# Altium footprint library Controller.PcbLib: 12 footprints
Each footprint in its own frame and in the unit in brackets; x right, y up, seen from the top. Pads: shape width x height; smd on the part's side, far side on the other; paste and mask are expansions set on the pad; w line width, h text height; cw(c..) or ccw(c..) is an arc to the next point about the centre after c.
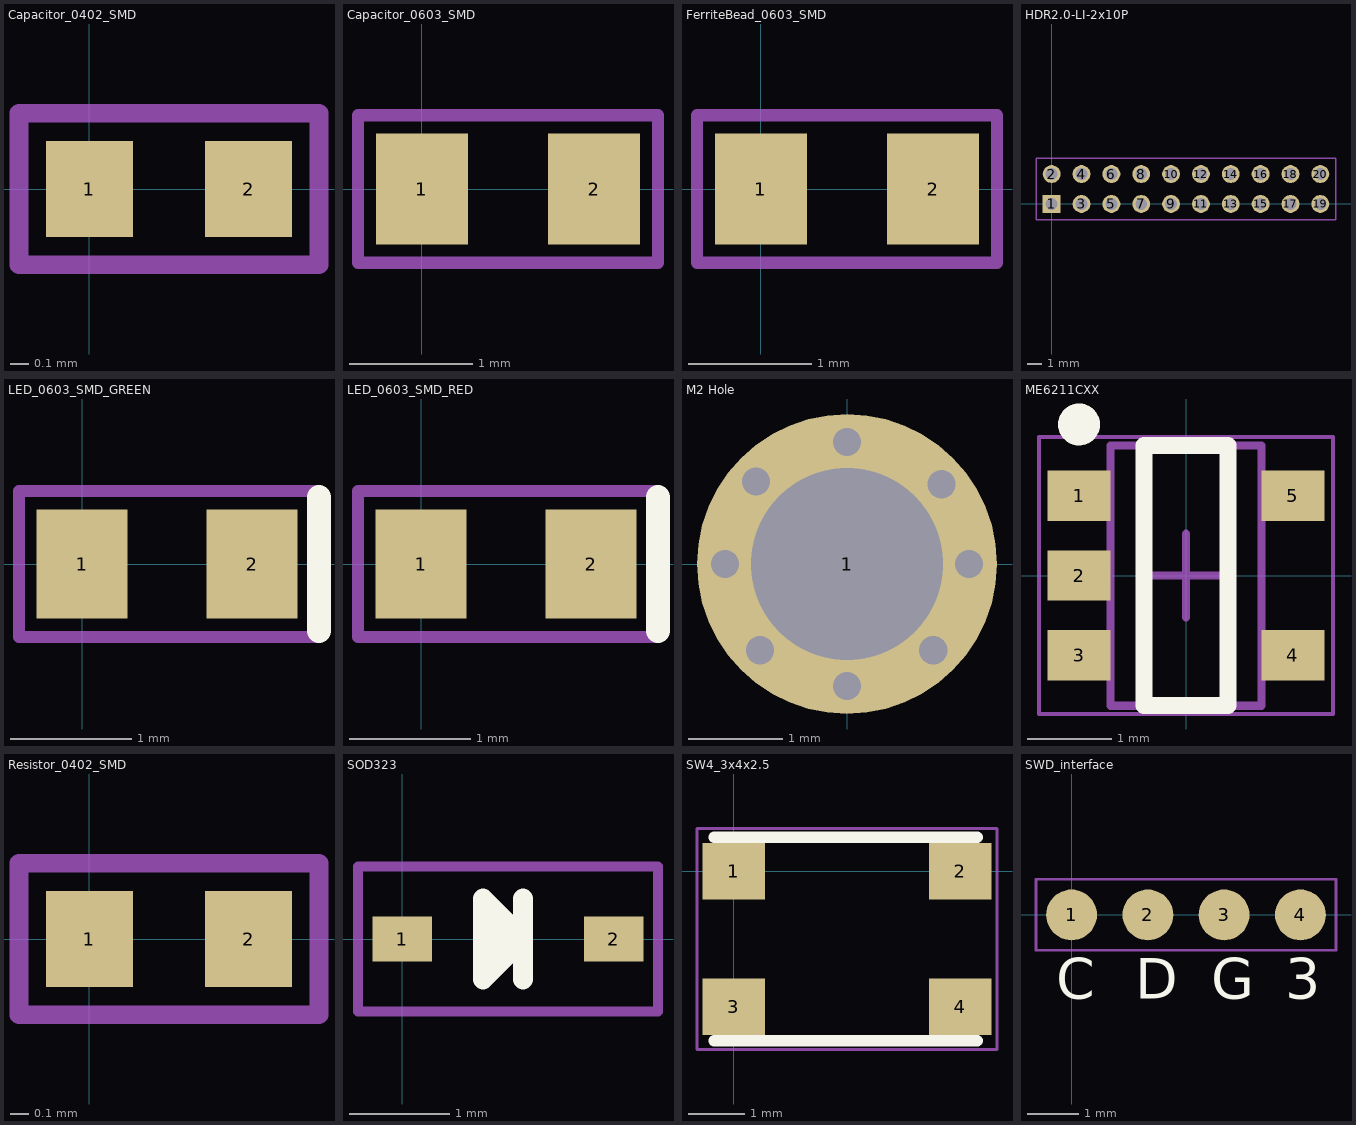
[diagram p0: the footprints below, top view; thin cyan lines are the x and y axes]

## Capacitor_0402_SMD [mm]
pads (2):
  rect 0.47x0.52 smd: 1(0,0) 2(0.86,0)
Mechanical 15:
  lines w0.1: -0.38,-0.41 1.24,-0.41 1.24,0.41 -0.38,0.41 -0.38,-0.41
3D body "capacitor_smd_0402.step": height 0.51, standoff -0.01, extent -0.165,-0.262 1.025,0.262

## Capacitor_0603_SMD [mm]
pads (2):
  rect 0.75x0.9 smd: 1(0,0) 2(1.4,0)
Mechanical 15:
  lines w0.1: -0.52,-0.6 1.92,-0.6 1.92,0.6 -0.52,0.6 -0.52,-0.6
3D body "capacitor_smd_0603.step": height 0.81, standoff -0.01, extent -0.23,-0.413 1.63,0.413

## FerriteBead_0603_SMD [mm]
pads (2):
  rect 0.75x0.9 smd: 1(0,0) 2(1.4,0)
Mechanical 15:
  lines w0.1: -0.52,-0.6 -0.52,0.6 1.92,0.6 1.92,-0.6 -0.52,-0.6
3D body "FerriteBead_0603.STEP": height 0.8, standoff 0, extent -0.1,-0.4 1.5,0.4

## HDR2.0-LI-2x10P [mm]
pads (20):
  rect 1.2x1.2 hole 0.8: 1(0,0)
  round 1.2 hole 0.8: 2(0,2) 3(2,0) 4(2,2) 5(4,0) 6(4,2) 7(6,0) 8(6,2) 9(8,0) 10(8,2) 11(10,0) 12(10,2) 13(12,0) 14(12,2) 15(14,0) 16(14,2) 17(16,0) 18(16,2) 19(18,0) 20(18,2)
Mechanical 15:
  lines w0.1: -1.05,-1.05 -1.05,3.05 19.05,3.05 19.05,-1.05 -1.05,-1.05
3D body "双排针 间距2.0mm 10x2.step": height 6, standoff -2.8, extent -1,-1 19,3

## LED_0603_SMD_GREEN [mm]
pads (2):
  rect 0.75x0.9 smd: 1(0,0) 2(1.4,0)
Top Overlay:
  lines w0.2: 1.95,-0.55 1.95,0.55
Mechanical 15:
  lines w0.1: -0.52,-0.6 1.92,-0.6 1.92,0.6 -0.52,0.6 -0.52,-0.6
3D body "LED_0603_GREEN.step": height 0.8, standoff 0, extent -0.1,-0.4 1.5,0.4

## LED_0603_SMD_RED [mm]
pads (2):
  rect 0.75x0.9 smd: 1(0,0) 2(1.4,0)
Top Overlay:
  lines w0.2: 1.95,-0.55 1.95,0.55
Mechanical 15:
  lines w0.1: -0.52,-0.6 -0.52,0.6 1.92,0.6 1.92,-0.6 -0.52,-0.6
3D body "LED_0603_RED.step": height 0.8, standoff 0, extent -0.1,-0.4 1.5,0.4

## M2 Hole [mm]
pads (1):
  round 3.2 hole 2.05: 1(0,0)
via -0.93,-0.92 diameter 0.3 hole 0.3
via 0.92,-0.92 diameter 0.3 hole 0.3
via -1.3,0 diameter 0.3 hole 0.3
via 0,1.3 diameter 0.3 hole 0.3
via 1.3,0 diameter 0.3 hole 0.3
via 0,-1.3 diameter 0.3 hole 0.3
via -0.97,0.88 diameter 0.3 hole 0.3
via 1.01,0.85 diameter 0.3 hole 0.3

## ME6211CXX [mm] "SOT23, 5-Leads, Body 2.90x2.80mm, Pitch 0.95mm, IPC High Density"
height 1.3
pads (5):
  rect 0.75x0.6 smd: 1(-1.275,0.95) 2(-1.275,0) 3(-1.275,-0.95) 4(1.275,-0.95) 5(1.275,0.95)
Top Overlay:
  circle w0.25: c-1.275,1.8 r0.125
  lines w0.2: -0.5,-1.55 0.5,-1.55 0.5,1.55 -0.5,1.55 -0.5,-1.55
Mechanical 13:
  lines w0.1: -0.9,-1.55 -0.9,1.55 0.9,1.55 0.9,-1.55 -0.9,-1.55
Mechanical 15:
  lines w0.05: -1.75,-1.65 -1.75,1.65 1.75,1.65 1.75,-1.65 -1.75,-1.65
  lines w0.1: -0.5,0 0.5,0 ; 0,-0.5 0,0.5
3D body: height 1.3, standoff 0.3, extent -0.9,-1.55 0.9,1.55

## Resistor_0402_SMD [mm]
pads (2):
  rect 0.47x0.52 smd: 1(0,0) 2(0.86,0)
Mechanical 15:
  lines w0.1: -0.38,-0.41 1.24,-0.41 1.24,0.41 -0.38,0.41 -0.38,-0.41
3D body "resistor_smd_0402.step": height 0.36, standoff -0.01, extent -0.07,-0.262 0.93,0.262

## SOD323 [mm]
pads (2):
  rect 0.59x0.45 smd: 1(0,0) 2(2.1,0)
Top Overlay:
  lines w0.2: 0.897,-0.196 0.897,0.231 ; 1,-0.2 1,0.2 ; 1.2,-0.4 1.2,0.4 ; 0.8,-0.4 1.2,0 0.8,0.4 0.8,-0.4
Mechanical 15:
  lines w0.1: -0.44,-0.72 -0.44,0.72 2.54,0.72 2.54,-0.72 -0.44,-0.72
3D body "SOD-323.step": height 1.1, standoff 0, extent -0.25,-0.675 2.35,0.675

## SW4_3x4x2.5 [mm]
pads (4):
  rect 1.1x1 smd: 1(0,0) 2(4,0) 3(0,-2.4) 4(4,-2.4)
Top Overlay:
  lines w0.2: -0.35,-3 4.3,-3 ; -0.35,0.6 4.3,0.6
Mechanical 15:
  lines w0.05: -0.65,-3.15 4.65,-3.15 4.65,0.75 -0.65,0.75 -0.65,-3.15
3D body "轻触开关4脚 3x4x2.5mm v3.step": height 2.5, standoff 0, extent -0.36,-2.9 4.365,0.5

## SWD_interface [mm]
pads (4):
  round 1 smd: 1(0,0) 2(1.5,0) 3(3,0) 4(4.5,0)
Top Overlay:
  text "C" at -0.3,-1.65 h0.8
  text "D" at 1.25,-1.65 h0.8
  text "G" at 2.75,-1.65 h0.8
  text "3" at 4.2,-1.65 h0.8
Mechanical 15:
  lines w0.05: -0.7,-0.7 5.2,-0.7 5.2,0.7 -0.7,0.7 -0.7,-0.7